# Altium schematic symbol library cocube_maix.SCHLIB: 12 symbols
Pins are listed as number, name and electrical type; pins without a type are passive.

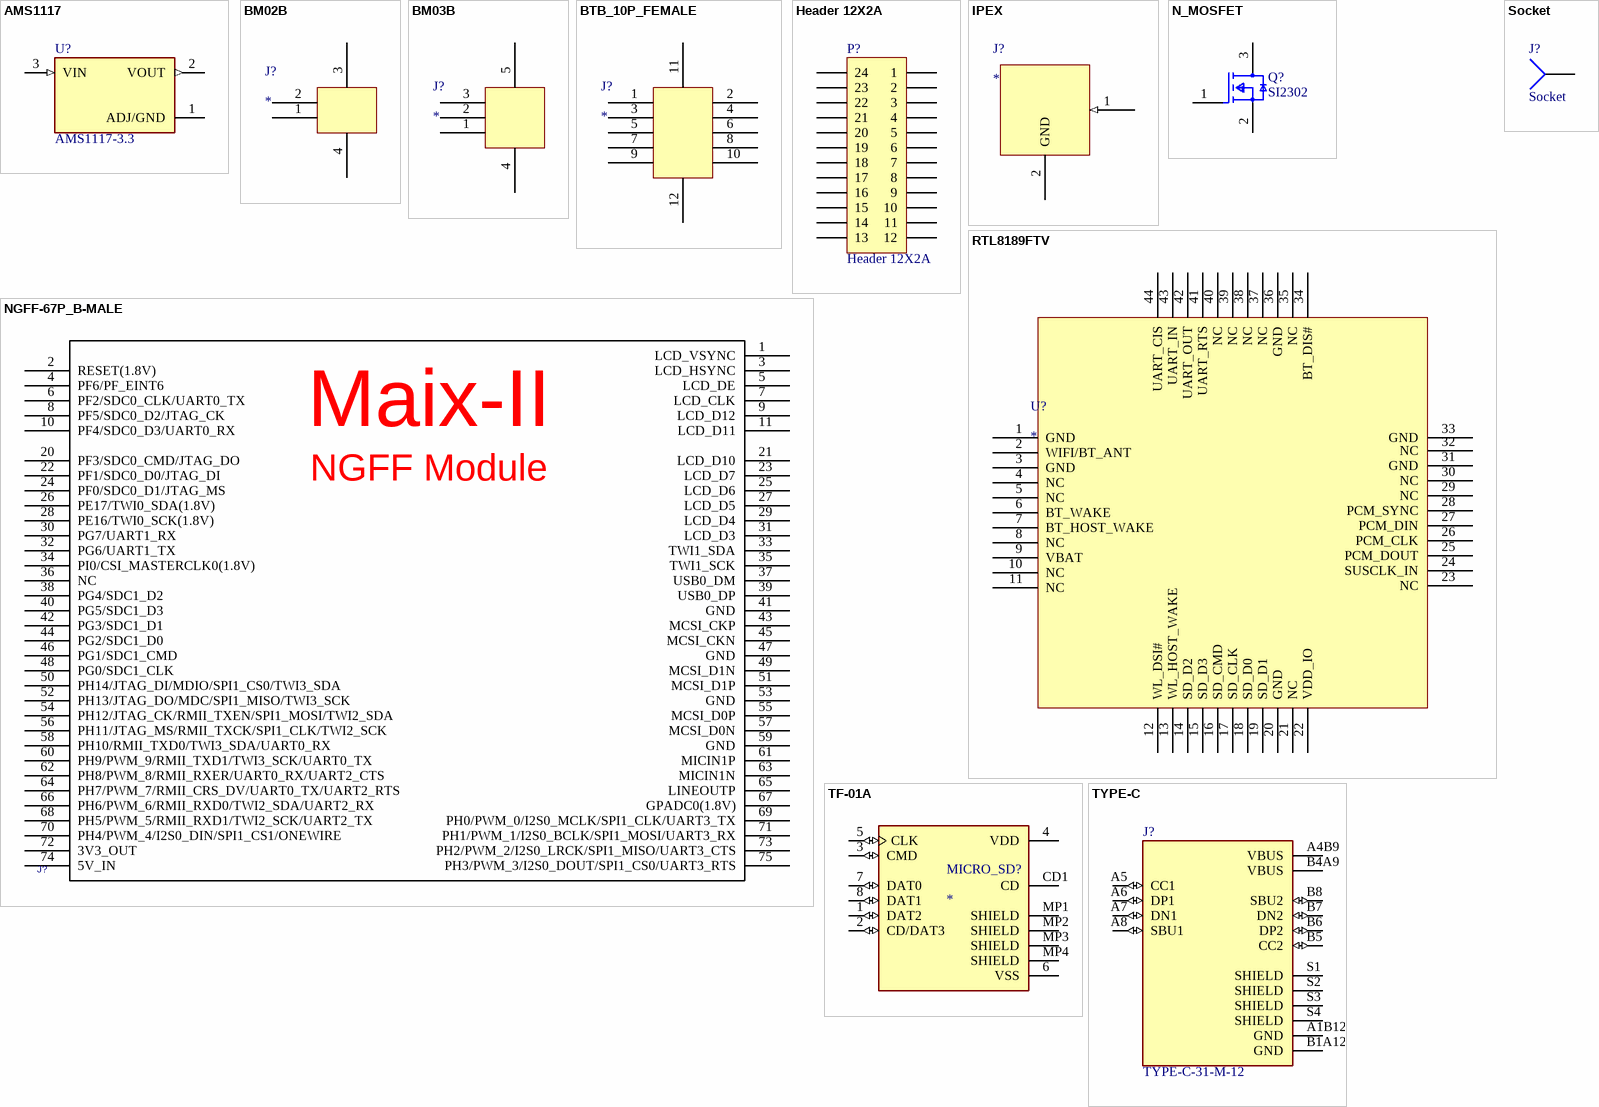
[diagram p0: symbols AMS1117 to TYPE-C]

## AMS1117
designator U?, comment AMS1117-3.3
Sot223/Pkg 1-Amp 5-Volt Low Drop Out Voltage Regulatator; MF: {'manufacturer': u'Advanced Monolithic Systems'}; Availability: Unavailable; Price: None; Value: *; MP: AMS1117; Package: None
footprint SOT229P700X180-4N
pins: 1 ADJ/GND (power), 2 VOUT (out), 3 VIN (in)

## BM02B
designator J?
footprint BM02B
pins: 1, 2, 3, 4

## BM03B
designator J?
footprint BM03B
pins: 1, 2, 3, 4, 5

## BTB_10P_FEMALE
designator J?
footprint BTB_10P_FEMALE
pins: 1, 2, 3, 4, 5, 6, 7, 8, 9 (power), 10, 11, 12

## Header 12X2A
designator P?
Header, 12-Pin, Dual row; LatestRevisionDate: 17-Jul-2002; LatestRevisionNote: Re-released for DXP Platform.; Publisher: Altium Limited
footprint HDR2X12_CEN (Connector; Header; 12x2 Position)
signal-integrity model Connector
footprint F_24PIN (0.5双槽板对板母座，24P)
pins: 1, 2, 3, 4, 5, 6, 7, 8, 9, 10, 11, 12, 13, 14, 15, 16, 17, 18, 19, 20, 21, 22, 23, 24

## IPEX
designator J?
pins: 1 (in), 2 GND

## N_MOSFET
designator Q?, comment SI2302
MOSFET N-CH 20V 2.9A SOT23-3; Manufacturer: Vishay Siliconix; Manufacturer Part Number: SI2302DDS-T1-GE3; Max Power Dissipation: 710mW; Number of Channels: 1; Turn-On Delay Time: 8ns; Rise Time: 7ns; Continuous Drain Current (ID): 2.6A; Drain to Source Resistance: 57mR; Gate to Source Voltage (Vgs): 8V; Turn-Off Delay Time: 30ns; RoHS Compliant: Yes; Drain to Source Voltage (Vdss): 20V; Case/Package: SOT-23; Lead Free: Lead Free; Weight: 0.050717oz; REACH SVHC: No SVHC; Max Operating Temperature: 150°C; Number of Elements: 1; Fall Time: 7ns; Packaging: Tape and Reel; Package Quantity: 3000; Number of Pins: 3; Power Dissipation: 710mW; Mount: Surface Mount; Min Operating Temperature: -55°C
footprint FP-S-03946-IPC_B
footprint FP-S-03946-IPC_C
footprint FP-S-03946-IPC_A
footprint FP-S-03946-MFG
pins: 1 G, 2 S, 3 D

## NGFF-67P_B-MALE
designator J?, comment NGFF-67P_B-KEY座子 4.2H高  (value not drawn)  (no BOM)
footprint M2-67P0R50_B_FEMALE (M2-67P0R50_B)
pins: 1 LCD_VSYNC, 2 RESET(1.8V), 3 LCD_HSYNC, 4 PF6/PF_EINT6, 5 LCD_DE, 6 PF2/SDC0_CLK/UART0_TX, 7 LCD_CLK, 8 PF5/SDC0_D2/JTAG_CK, 9 LCD_D12, 10 PF4/SDC0_D3/UART0_RX, 11 LCD_D11, 20 PF3/SDC0_CMD/JTAG_DO, 21 LCD_D10, 22 PF1/SDC0_D0/JTAG_DI, 23 LCD_D7, 24 PF0/SDC0_D1/JTAG_MS, 25 LCD_D6, 26 PE17/TWI0_SDA(1.8V), 27 LCD_D5, 28 PE16/TWI0_SCK(1.8V), 29 LCD_D4, 30 PG7/UART1_RX, 31 LCD_D3, 32 PG6/UART1_TX, 33 TWI1_SDA, 34 PI0/CSI_MASTERCLK0(1.8V), 35 TWI1_SCK, 36 NC, 37 USB0_DM, 38 PG4/SDC1_D2, 39 USB0_DP, 40 PG5/SDC1_D3, 41 GND, 42 PG3/SDC1_D1, 43 MCSI_CKP, 44 PG2/SDC1_D0, 45 MCSI_CKN, 46 PG1/SDC1_CMD, 47 GND, 48 PG0/SDC1_CLK, 49 MCSI_D1N, 50 PH14/JTAG_DI/MDIO/SPI1_CS0/TWI3_SDA, 51 MCSI_D1P, 52 PH13/JTAG_DO/MDC/SPI1_MISO/TWI3_SCK, 53 GND, 54 PH12/JTAG_CK/RMII_TXEN/SPI1_MOSI/TWI2_SDA, 55 MCSI_D0P, 56 PH11/JTAG_MS/RMII_TXCK/SPI1_CLK/TWI2_SCK, 57 MCSI_D0N, 58 PH10/RMII_TXD0/TWI3_SDA/UART0_RX, 59 GND, 60 PH9/PWM_9/RMII_TXD1/TWI3_SCK/UART0_TX, 61 MICIN1P, 62 PH8/PWM_8/RMII_RXER/UART0_RX/UART2_CTS, 63 MICIN1N, 64 PH7/PWM_7/RMII_CRS_DV/UART0_TX/UART2_RTS, 65 LINEOUTP, 66 PH6/PWM_6/RMII_RXD0/TWI2_SDA/UART2_RX, 67 GPADC0(1.8V), 68 PH5/PWM_5/RMII_RXD1/TWI2_SCK/UART2_TX, 69 PH0/PWM_0/I2S0_MCLK/SPI1_CLK/UART3_TX, 70 PH4/PWM_4/I2S0_DIN/SPI1_CS1/ONEWIRE, 71 PH1/PWM_1/I2S0_BCLK/SPI1_MOSI/UART3_RX, 72 3V3_OUT, 73 PH2/PWM_2/I2S0_LRCK/SPI1_MISO/UART3_CTS, 74 5V_IN, 75 PH3/PWM_3/I2S0_DOUT/SPI1_CS0/UART3_RTS
text: Maix-II; NGFF Module

## RTL8189FTV
designator U?
pins: 1 GND, 2 WIFI/BT_ANT, 3 GND, 4 NC, 5 NC, 6 BT_WAKE, 7 BT_HOST_WAKE, 8 NC, 9 VBAT, 10 NC, 11 NC, 12 WL_DSI#, 13 WL_HOST_WAKE, 14 SD_D2, 15 SD_D3, 16 SD_CMD, 17 SD_CLK, 18 SD_D0, 19 SD_D1, 20 GND, 21 NC, 22 VDD_IO, 23 NC, 24 SUSCLK_IN, 25 PCM_DOUT, 26 PCM_CLK, 27 PCM_DIN, 28 PCM_SYNC, 29 NC, 30 NC, 31 GND, 32 NC, 33 GND, 34 BT_DIS#, 35 NC, 36 GND, 37 NC, 38 NC, 39 NC, 40 NC, 41 UART_RTS, 42 UART_OUT, 43 UART_IN, 44 UART_CIS

## Socket
designator J?
LatestRevisionDate: 17-Jul-2002; LatestRevisionNote: Re-released for DXP Platform.; Publisher: Altium Limited
footprint PIN1 (Connector; Socket)
signal-integrity model Connector
footprint M.2 SMT-FEMALE - FULL (Connector; Plug)
pins: 1

## TF-01A
designator MICRO_SD?
<b>Connector - Card Sockets 8 1.1mm SMD RoHS</b><p> Source: <a href="https://datasheet.lcsc.com/szlcsc/1903221101_Korean-Hroparts-Elec-TF-01A_C91145.pdf"> Datasheet </a>; MP: TF-01A; MF: {'manufacturer': u'HRO Electronics Co., Ltd.'}; Availability: Unavailable; Price: None; Package: None; Value: *
footprint TF-01A
pins: 1 DAT2 (io), 2 CD/DAT3 (io), 3 CMD (io), 4 VDD (power), 5 CLK (io), 6 VSS (power), 7 DAT0 (io), 8 DAT1 (io), CD1 CD, MP1 SHIELD (power), MP2 SHIELD (power), MP3 SHIELD (power), MP4 SHIELD (power)

## TYPE-C
designator J?, comment TYPE-C-31-M-12
USB Connectors 24 Receptacle 1 8.94*7.3mm RoHS; MF: {'manufacturer': u'HRO Electronics Co., Ltd.'}; MP: TYPE-C-31-M-12; Availability: Unavailable; Price: None; Value: *; Package: None
footprint HRO_TYPE-C-31-M-12
pins: A1B12 GND (power), A4B9 VBUS (power), A5 CC1 (io), A6 DP1 (io), A7 DN1 (io), A8 SBU1 (io), B1A12 GND (power), B4A9 VBUS (power), B5 CC2 (io), B6 DP2 (io), B7 DN2 (io), B8 SBU2 (io), S1 SHIELD, S2 SHIELD, S3 SHIELD, S4 SHIELD